# EAGLE library part 2485396-2 (library 2485396-2)
HDMI Connector Receptacle, Standard Profile, 1 Port, Top, Right Angle, Surface Mount, Cable-to-Board, 19 Position, .5 mm [.019 in] Centerline Source: Datasheet <https://www.te.com/en/product-2485396-2.html>
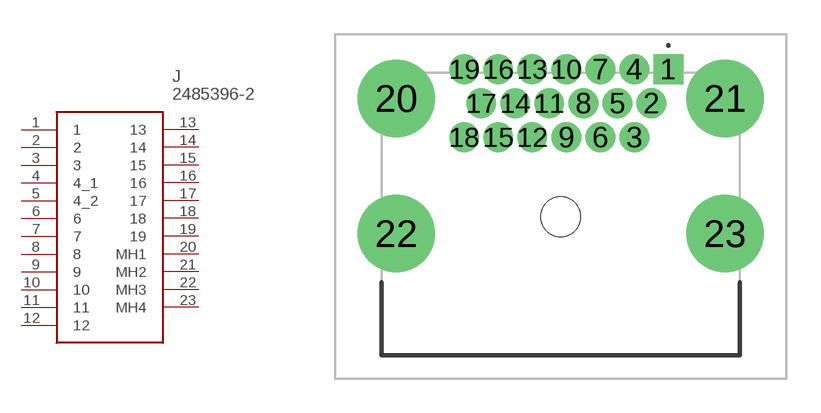
[diagram p0: symbol with the pads of 24853962; footprint 24853962]

Designator prefix J

## 2485396-2 (Description: HDMI Connector Receptacle, Standard Profile, 1 Port, Top, Right Angle, Surface Mount, Cable-to-Board, 19 Position, .5 mm [.019 in] Centerline; Height: 6.33mm; Manufacturer_Name: TE Connectivity; Manufacturer_Part_Number: 2485396-2)  [24853962]
1  1
2  2
3  3
4  4_1
5  4_2
6  6
7  7
8  8
9  9
10  10
11  11
12  12
13  13
14  14
15  15
16  16
17  17
18  18
19  19
20  MH1
21  MH2
22  MH3
23  MH4

## Footprint 24853962 (pad centres in mm)
2485396-2-1
drill 0.8 pad 1.1 square: 1 0,0
drill 0.8 pad 1.1: 2 -0.75,-1.5; 3 -1.5,-3; 4 -1.5,0; 5 -2.25,-1.5; 6 -3,-3; 7 -3,0; 8 -3.75,-1.5; 9 -4.5,-3; 10 -4.5,0; 11 -5.25,-1.5; 12 -6,-3; 13 -6,0; 14 -6.75,-1.5; 15 -7.5,-3; 16 -7.5,0; 17 -8.25,-1.5; 18 -9,-3; 19 -9,0
drill 2.28 pad 3.42: 20 -12,-1.29; 21 2.5,-1.29; 22 -12,-7.25; 23 2.5,-7.25
hole 1.75 at -4.75,-6.5